# EAGLE library part HEADER-13P-1R (library deiring-components)
Header 13 Pin 1 Row
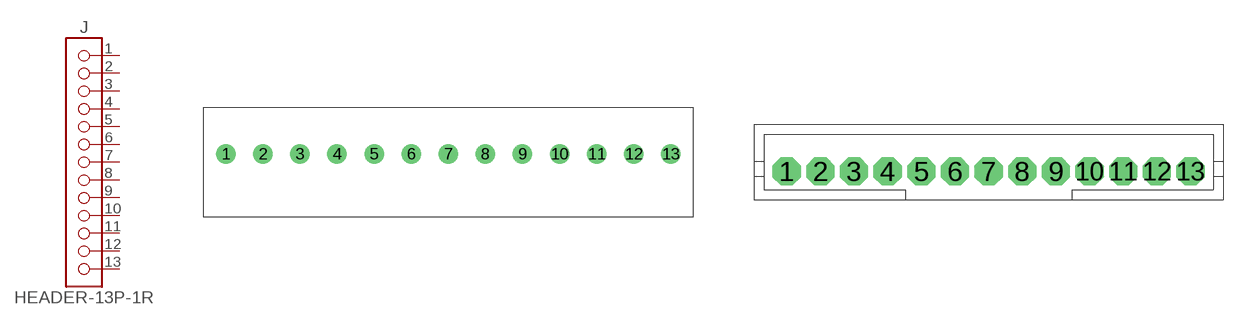
[diagram p18: symbol with the pads of WJ15EDGVC-3.81-13P; footprints WJ15EDGVC-3.81-13P, JST-B13B-PH-K-S]

Designator prefix J

## HEADER-13P-1R-WJ15EDGVC-3.81-13P (LCSC: C508933; MF: Ningbo Kangnex Elec; MPN: WJ15EDGVC-3.81-13P; VALUE: 13P)  [WJ15EDGVC-3.81-13P]
1  01  pas
2  02  pas
3  03  pas
4  04  pas
5  05  pas
6  06  pas
7  07  pas
8  08  pas
9  09  pas
10  10  pas
11  11  pas
12  12  pas
13  13  pas

## HEADER-13P-1R-B13B-PH-K-S (LCSC: C158026; MF: JST Sales America; MPN: B13B-PH-K-S(LF)(SN); VALUE: 13P)  [JST-B13B-PH-K-S]
Pads as for WJ15EDGVC-3.81-13P

## HEADER-13P-1R-B13B-PH-SM4-TB (LCSC: C5305730; MF: JST Sales America; MPN: B13B-PH-SM4-TB(LF)(SN); VALUE: 13P)  [JST-B13B-PH-SM4-TB]
Pads as for WJ15EDGVC-3.81-13P

## HEADER-13P-1R-S13B-PH-K-S (LCSC: C157940; MF: JST Sales America; MPN: S13B-PH-K-S(LF)(SN); VALUE: 13P)  [JST-S13B-PH-K-S]
Pads as for WJ15EDGVC-3.81-13P

## HEADER-13P-1R-S13B-PH-SM4-TB (LCSC: C566195; MF: JST Sales America; MPN: S13B-PH-SM4-TB(LF)(SN); VALUE: 13P)  [JST-S13B-PH-SM4-TB]
Pads as for WJ15EDGVC-3.81-13P

## HEADER-13P-1R-KF2EDGV-5.08-13P (MF: Cixi Kefa Elec; MPN: KF2EDGV-5.08-13P; VALUE: 13P)  [KF2EDGV-5.08-13P]
Pads as for WJ15EDGVC-3.81-13P

## HEADER-13P-1R-KF2EDGR-5.08-13P (MF: Cixi Kefa Elec; MPN: KF2EDGR-5.08-13P; VALUE: 13P)  [KF2EDGR-5.08-13P]
Pads as for WJ15EDGVC-3.81-13P

## Footprint WJ15EDGVC-3.81-13P (pad centres in mm)
drill 1.2 pad 2: 1 -22.86,0; 2 -19.05,0; 3 -15.24,0; 4 -11.43,0; 5 -7.62,0; 6 -3.81,0; 7 0,0; 8 3.81,0; 9 7.62,0; 10 11.43,0; 11 15.24,0; 12 19.05,0; 13 22.86,0

## Footprint JST-B13B-PH-K-S (pad centres in mm)
drill 0.813 pad 1.676 octagon: 1 -12,0; 2 -10,0; 3 -8,0; 4 -6,0; 5 -4,0; 6 -2,0; 7 0,0; 8 2,0; 9 4,0; 10 6,0; 11 8,0; 12 10,0; 13 12,0

## Footprint JST-B13B-PH-SM4-TB (pad centres in mm)
smd 1 x 5.5: 1 -12,0; 2 -10,0; 3 -8,0; 4 -6,0; 5 -4,0; 6 -2,0; 7 0,0; 8 2,0; 9 4,0; 10 6,0; 11 8,0; 12 10,0; 13 12,0
smd 1.6 x 3: A -14.4,2.25; B 14.4,2.25

## Footprint JST-S13B-PH-K-S (pad centres in mm)
drill 0.813 pad 1.676 octagon: 1 -12,0; 2 -10,0; 3 -8,0; 4 -6,0; 5 -4,0; 6 -2,0; 7 0,0; 8 2,0; 9 4,0; 10 6,0; 11 8,0; 12 10,0; 13 12,0

## Footprint JST-S13B-PH-SM4-TB (pad centres in mm)
smd 1 x 3.5: 1 -12,0; 2 -10,0; 3 -8,0; 4 -6,0; 5 -4,0; 6 -2,0; 7 0,0; 8 2,0; 9 4,0; 10 6,0; 11 8,0; 12 10,0; 13 12,0
smd 1.5 x 3.4: A -14.35,5.55; B 14.35,5.55

## Footprint KF2EDGV-5.08-13P (pad centres in mm)
drill 1.6: 1 -30.48,0; 2 -25.4,0; 3 -20.32,0; 4 -15.24,0; 5 -10.16,0; 6 -5.08,0; 7 0,0; 8 5.08,0; 9 10.16,0; 10 15.24,0; 11 20.32,0; 12 25.4,0; 13 30.48,0

## Footprint KF2EDGR-5.08-13P (pad centres in mm)
drill 1.6: 1 -30.48,0; 2 -25.4,0; 3 -20.32,0; 4 -15.24,0; 5 -10.16,0; 6 -5.08,0; 7 0,0; 8 5.08,0; 9 10.16,0; 10 15.24,0; 11 20.32,0; 12 25.4,0; 13 30.48,0